# Altium footprint library Tank.PcbLib: 288 footprints (part 14 of 18)
Each footprint in its own frame and in the unit in brackets; x right, y up, seen from the top. Pads: shape width x height; smd on the part's side, far side on the other; paste and mask are expansions set on the pad; w line width, h text height; cw(c..) or ccw(c..) is an arc to the next point about the centre after c.
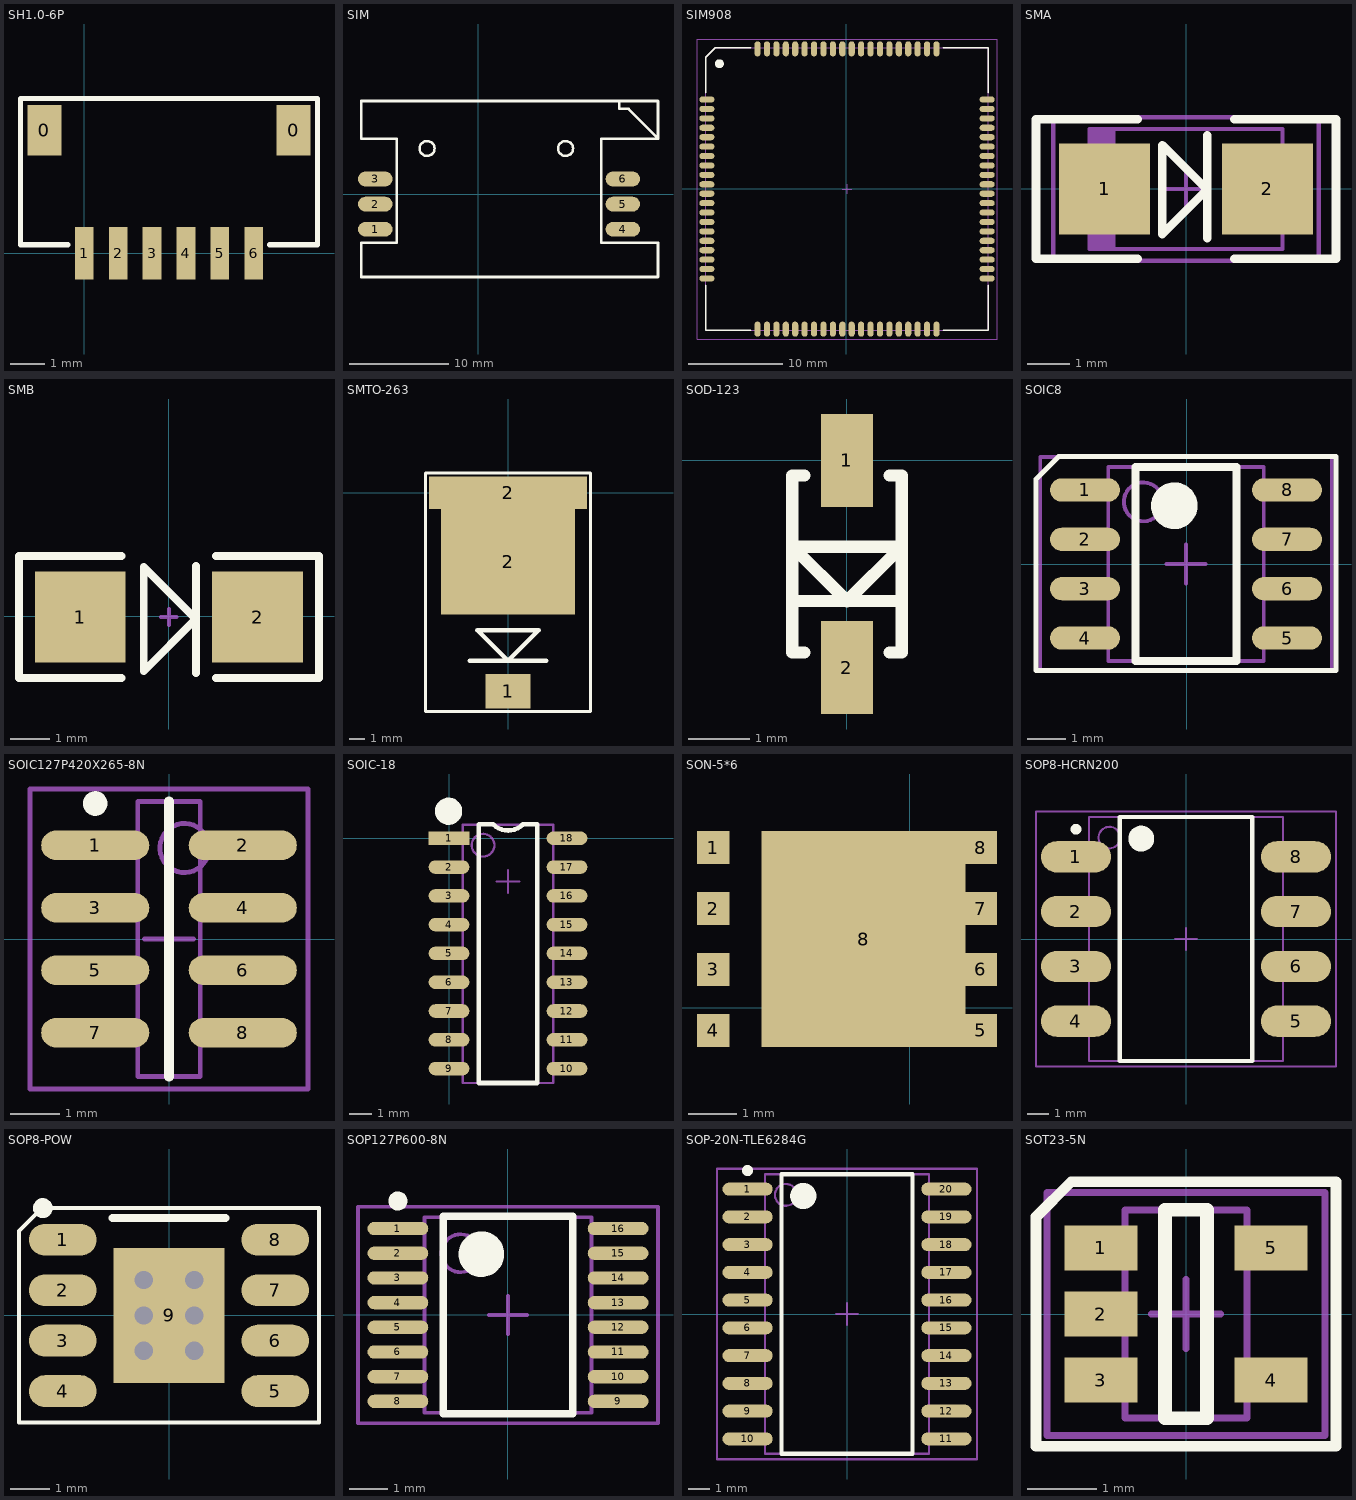
[diagram p13: the footprints below, top view; thin cyan lines are the x and y axes]

## SH1.0-6P [mm]
pads (8):
  rect 1x1.5 smd: 0(-1.175,3.63) 0(6.175,3.63)
  rect 0.55x1.55 smd: 1(0,0) 2(1,0) 3(2,0) 4(3,0) 5(4,0) 6(5,0)
Top Overlay:
  lines w0.152: -0.483,0.254 -1.88,0.254 -1.88,4.572 6.883,4.572 6.883,0.254 5.461,0.254

## SIM [mm]
pads (6):
  oval 3.5x1.5 smd: 1(-10.414,-3.556) 2(-10.414,-1.016) 3(-10.414,1.524) 4(14.605,-3.556) 5(14.605,-1.016) 6(14.605,1.524)
Top Overlay:
  circle w0.254: c8.824,4.608 r0.75
  circle w0.254: c-5.176,4.608 r0.75
  lines w0.254: -11.836,5.588 -11.836,9.388 ; -11.811,-4.953 -11.811,-8.382 18.161,-8.382 18.161,-4.942 12.446,-4.942 12.446,5.608 18.161,5.608 ; -11.811,-4.942 -8.255,-4.942 -8.255,5.608 -11.811,5.608 ; -11.811,9.408 12.873,9.408 18.161,9.408 18.161,5.608 ; 14.224,9.408 14.224,8.608 15.186,8.608 ; 15.186,8.582 18.161,5.608

## SIM908 [mm] "LCC, 80-Pins, Body 30.0x30.0mm (max), Pitch 1.00mm, IPC Medium Density"
height 2.54
pads (80):
  oval 0.65x1.6 smd: 1(-0.4,14.875) 2(-1.4,14.875) 3(-2.4,14.875) 4(-3.4,14.875) 5(-4.4,14.875) 6(-5.4,14.875) 7(-6.4,14.875) 8(-7.4,14.875) 9(-8.4,14.875) 10(-9.4,14.875) 31(-9.4,-14.875) 32(-8.4,-14.875) 33(-7.4,-14.875) 34(-6.4,-14.875) 35(-5.4,-14.875) 36(-4.4,-14.875) 37(-3.4,-14.875) 38(-2.4,-14.875) 39(-1.4,-14.875) 40(-0.4,-14.875) 41(0.6,-14.875) 42(1.6,-14.875) 43(2.6,-14.875) 44(3.6,-14.875) 45(4.6,-14.875) 46(5.6,-14.875) 47(6.6,-14.875) 48(7.6,-14.875) 49(8.6,-14.875) 50(9.6,-14.875) 71(9.6,14.875) 72(8.6,14.875) 73(7.6,14.875) 74(6.6,14.875) 75(5.6,14.875) 76(4.6,14.875) 77(3.6,14.875) 78(2.6,14.875) 79(1.6,14.875) 80(0.6,14.875)
  oval 1.6x0.65 smd: 11(-14.775,9.5) 12(-14.775,8.5) 13(-14.775,7.5) 14(-14.775,6.5) 15(-14.775,5.5) 16(-14.775,4.5) 17(-14.775,3.5) 18(-14.775,2.5) 19(-14.775,1.5) 20(-14.775,0.5) 21(-14.775,-0.5) 22(-14.775,-1.5) 23(-14.775,-2.5) 24(-14.775,-3.5) 25(-14.775,-4.5) 26(-14.775,-5.5) 27(-14.775,-6.5) 28(-14.775,-7.5) 29(-14.775,-8.5) 30(-14.775,-9.5) 51(14.975,-9.5) 52(14.975,-8.5) 53(14.975,-7.5) 54(14.975,-6.5) 55(14.975,-5.5) 56(14.975,-4.5) 57(14.975,-3.5) 58(14.975,-2.5) 59(14.975,-1.5) 60(14.975,-0.5) 61(14.975,0.5) 62(14.975,1.5) 63(14.975,2.5) 64(14.975,3.5) 65(14.975,4.5) 66(14.975,5.5) 67(14.975,6.5) 68(14.975,7.5) 69(14.975,8.5) 70(14.975,9.5)
Top Overlay:
  circle w0.45: c-13.45,13.3 r0.25
  lines w0.2: -14.9,-10.225 -14.9,-15 -10.125,-15 ; -14.9,10.225 -14.9,14 -13.9,15 -10.125,15 ; 10.325,-15 15.1,-15 15.1,-10.225 ; 10.325,15 15.1,15 15.1,10.225
Mechanical 13:
  lines w0.1: -14.9,-15 15.1,-15 15.1,15 -13.9,15 -14.9,14 -14.9,-15
Mechanical 15:
  lines w0.1: -0.4,0 0.6,0 ; 0.1,-0.5 0.1,0.5 ; -15.825,-15.925 16.025,-15.925 16.025,15.925 -15.825,15.925 -15.825,-15.925
3D body: height 2.54, standoff 0, extent -14.9,-15 15.1,15

## SMA [mm] "Molded Diode, 2-Leads, Body 4.3x2.7mm, IPC Medium Density"
height 2.95
pads (2):
  rect 2.15x2.15 smd: 1(-1.93,0) 2(1.93,0)
Top Overlay:
  lines w0.203: -1.143,-1.651 -3.556,-1.651 -3.556,1.651 -1.143,1.651 ; 0.508,-1.168 0.508,1.27 ; 1.143,-1.651 3.556,-1.651 3.556,1.651 1.143,1.651 ; -0.559,-1.067 -0.559,1.041 0.495,-0.013 -0.559,-1.067
Mechanical 13:
  rectangle: -2.285,-1.42 -1.67,1.42
  lines w0.1: -2.285,-1.42 2.285,-1.42 2.285,1.42 -2.285,1.42 -2.285,-1.42
Mechanical 15:
  lines w0.1: -0.5,0 0.5,0 ; 0,-0.5 0,0.5 ; -3.15,-1.7 3.15,-1.7 3.15,1.7 -3.15,1.7 -3.15,-1.7
3D body: height 2.95, standoff 0, extent -2.285,-1.42 2.285,1.42

## SMB [mm]
pads (2):
  rect 2.3x2.3 smd: 1(-2.25,-0.025) 2(2.25,-0.025)
Top Overlay:
  lines w0.2: -1.2,-1.575 -3.8,-1.575 -3.8,1.525 -1.2,1.525 ; 0.686,-1.448 0.686,1.27 ; 1.2,-1.575 3.81,-1.575 3.81,1.525 1.2,1.525 ; -0.635,-1.397 -0.635,1.245 0.686,-0.076 -0.635,-1.397
Mechanical 1:
  lines w0.1: -0.2,-0.025 0.2,-0.025 ; 0,-0.225 0,0.175

## SMTO-263 [mm]
pads (3):
  rect 3x2.3 smd: 1(0,-13.208)
  rect 8.89x7.05 smd: 2(0,-4.572)
  rect 10.5x2.16 smd: 2(0,0)
Top Overlay:
  lines w0.2: -5.486,-14.554 5.486,-14.554 5.486,1.321 -5.486,1.321 -5.486,-14.554
  lines w0.3: -2.54,-11.176 2.54,-11.176 ; -2.032,-9.144 2.032,-9.144 0,-11.176 -2.032,-9.144

## SOD-123 [mm]
pads (2):
  rect 0.85x1.524 smd: 1(0,0) 2(0,-3.4)
Top Overlay:
  lines w0.2: -0.9,-2.31 0.9,-2.31 ; -0.7,-3.15 -0.9,-3.15 -0.9,-0.25 -0.7,-0.25 ; 0.7,-3.15 0.9,-3.15 0.9,-0.25 0.7,-0.25
  lines w0.203: 0.839,-1.419 -0.89,-1.419 0,-2.31 0.89,-1.419

## SOIC8 [mm]
pads (8):
  oval 1.8x0.6 smd: 1(-2.625,1.905) 2(-2.625,0.635) 3(-2.625,-0.635) 4(-2.625,-1.905) 5(2.575,-1.905) 6(2.575,-0.635) 7(2.575,0.635) 8(2.575,1.905)
Top Overlay:
  circle w0.6: c-0.325,1.5 r0.3
  lines w0.127: -3.2,2.769 3.835,2.769 3.835,-2.743 -3.886,-2.743 -3.886,2.184 -3.302,2.769 -2.997,2.769
  lines w0.2: -1.325,-2.5 -1.325,2.5 1.275,2.5 1.275,-2.5 -1.325,-2.5
Mechanical 13:
  circle w0.1: c-1.125,1.6 r0.5
  lines w0.1: -2.025,-2.5 -2.025,2.5 1.975,2.5 1.975,-2.5 -2.025,-2.5
Mechanical 15:
  lines w0.1: -0.525,0 0.475,0 ; -0.025,-0.5 -0.025,0.5 ; -3.775,-2.75 -3.775,2.75 3.725,2.75 3.725,-2.75 -3.775,-2.75
3D body: height 1.76, standoff 0, extent -2.025,-2.5 1.975,2.5

## SOIC127P420X265-8N [mm] "SOIC, 8-Leads, Body 5.6x1.3mm (max), Pitch 1.27mm, IPC Medium Density"
height 2.65
pads (8):
  oval 2.2x0.6 smd: 1(-1.5,1.905) 2(1.5,1.905) 3(-1.5,0.635) 4(1.5,0.635) 5(-1.5,-0.635) 6(1.5,-0.635) 7(-1.5,-1.905) 8(1.5,-1.905)
Top Overlay:
  circle w0.25: c-1.5,2.755 r0.125
  lines w0.2: 0,-2.8 0,2.8 0,-2.8
Mechanical 13:
  circle w0.1: c0.315,1.85 r0.5
  lines w0.1: -0.635,-2.8 0.635,-2.8 0.635,2.8 -0.635,2.8 -0.635,-2.8
Mechanical 15:
  lines w0.1: -0.5,0 0.5,0 ; 0,-0.5 0,0.5 ; -2.825,-3.05 2.825,-3.05 2.825,3.05 -2.825,3.05 -2.825,-3.05
3D body: height 2.65, standoff 0.1, extent -0.635,-2.8 0.635,2.8

## SOIC-18 [mm]
pads (18):
  rect 1.8x0.6 smd: 1(0,0)
  oval 1.8x0.6 smd: 2(0,-1.27) 3(0,-2.54) 4(0,-3.81) 5(0,-5.08) 6(0,-6.35) 7(0,-7.62) 8(0,-8.89) 9(0,-10.16) 10(5.2,-10.16) 11(5.2,-8.89) 12(5.2,-7.62) 13(5.2,-6.35) 14(5.2,-5.08) 15(5.2,-3.81) 16(5.2,-2.54) 17(5.2,-1.27) 18(5.2,0)
Top Overlay:
  circle w0.6: c-0.021,1.194 r0.3
  lines w0.2: 1.3,0.595 1.3,-10.795 3.9,-10.795 3.9,0.595 ; 1.321,0.61 1.956,0.61 ; 3.251,0.61 3.886,0.61
  lines w0.203: 1.956,0.61 ccw(c2.603,1.257) 3.251,0.61
Mechanical 13:
  circle w0.1: c1.5,-0.305 r0.5
  lines w0.1: 0.6,-10.795 4.6,-10.795 4.6,0.595 0.6,0.595 0.6,-10.795
Mechanical 15:
  lines w0.1: 2.1,-1.905 3.1,-1.905 ; 2.6,-2.405 2.6,-1.405
3D body: height 1.76, standoff 0, extent 0.6,-10.795 4.6,0.595

## SON-5*6 [mm]
pads (9):
  rect 0.68x0.68 smd: 1(-4.097,3.34) 2(-4.097,2.07) 3(-4.097,0.8) 4(-4.097,-0.47) 5(1.473,-0.47) 6(1.473,0.8) 7(1.473,2.07) 8(1.473,3.34)
  rect 4.248x4.496 smd: 8(-0.965,1.435)

## SOP8-HCRN200 [mm]
height 2.65
pads (8):
  oval 3.25x1.45 smd: 1(-5.1,3.81) 2(-5.1,1.27) 3(-5.1,-1.27) 4(-5.1,-3.81) 5(5.1,-3.81) 6(5.1,-1.27) 7(5.1,1.27) 8(5.1,3.81)
Top Overlay:
  circle w0.6: c-2.075,4.65 r0.3
  circle w0.25: c-5.1,5.085 r0.125
  lines w0.2: -3.075,-5.65 3.075,-5.65 3.075,5.65 -3.075,5.65 -3.075,-5.65
Mechanical 13:
  circle w0.1: c-3.55,4.7 r0.5
  lines w0.1: -4.5,-5.65 4.5,-5.65 4.5,5.65 -4.5,5.65 -4.5,-5.65
Mechanical 15:
  lines w0.1: -0.5,0 0.5,0 ; 0,-0.5 0,0.5 ; -6.95,-5.9 6.95,-5.9 6.95,5.9 -6.95,5.9 -6.95,-5.9
3D body: height 2.65, standoff 0.1, extent -4.5,-5.65 4.5,5.65

## SOP8-POW [mm]
height 2.65
pads (9):
  oval 1.7x0.8 smd: 1(-2.675,1.905) 2(-2.675,0.635) 3(-2.675,-0.635) 4(-2.675,-1.905) 5(2.675,-1.905) 6(2.675,-0.635) 7(2.675,0.635) 8(2.675,1.905)
  rect 2.8x3.4 smd: 9(0,0)
via -0.635,0.889 diameter 0.559 hole 0.457
via 0.635,0.889 diameter 0.559 hole 0.457
via -0.635,0 diameter 0.559 hole 0.457
via 0.635,0 diameter 0.559 hole 0.457
via -0.635,-0.889 diameter 0.559 hole 0.457
via 0.635,-0.889 diameter 0.559 hole 0.457
Top Overlay:
  circle w0.25: c-3.175,2.7 r0.125
  lines w0.1: -3.775,-2.7 -3.775,2.125 -3.2,2.7 3.775,2.7 3.775,-2.7 -3.775,-2.7
  lines w0.2: -1.425,2.45 1.425,2.45
Mechanical 15:
  lines w0.1: -0.5,0 0.5,0 ; 0,-0.5 0,0.5

## SOP127P600-8N [mm]
height 2.65
pads (16):
  oval 1.6x0.35 smd: 1(-2.9,2.275) 2(-2.9,1.625) 3(-2.9,0.975) 4(-2.9,0.325) 5(-2.9,-0.325) 6(-2.9,-0.975) 7(-2.9,-1.625) 8(-2.9,-2.275) 9(2.9,-2.275) 10(2.9,-1.625) 11(2.9,-0.975) 12(2.9,-0.325) 13(2.9,0.325) 14(2.9,0.975) 15(2.9,1.625) 16(2.9,2.275)
Top Overlay:
  circle w0.6: c-0.7,1.6 r0.3
  circle w0.25: c-2.9,3 r0.125
  lines w0.2: -1.7,-2.6 1.7,-2.6 1.7,2.6 -1.7,2.6 -1.7,-2.6
Mechanical 13:
  circle w0.1: c-1.25,1.625 r0.5
  lines w0.1: -2.2,-2.575 2.2,-2.575 2.2,2.575 -2.2,2.575 -2.2,-2.575
Mechanical 15:
  lines w0.1: -0.5,0 0.5,0 ; 0,-0.5 0,0.5 ; -3.95,-2.85 3.95,-2.85 3.95,2.85 -3.95,2.85 -3.95,-2.85
3D body: height 2.65, standoff 0.19, extent -2.2,-2.575 2.2,2.575

## SOP-20N-TLE6284G [mm] "SOP, 20-Leads, Body 12.8x7.5mm (max), Pitch 1.27mm, IPC Medium Density"
height 2.65
pads (20):
  oval 2.3x0.6 smd: 1(-4.55,5.715) 2(-4.55,4.445) 3(-4.55,3.175) 4(-4.55,1.905) 5(-4.55,0.635) 6(-4.55,-0.635) 7(-4.55,-1.905) 8(-4.55,-3.175) 9(-4.55,-4.445) 10(-4.55,-5.715) 11(4.55,-5.715) 12(4.55,-4.445) 13(4.55,-3.175) 14(4.55,-1.905) 15(4.55,-0.635) 16(4.55,0.635) 17(4.55,1.905) 18(4.55,3.175) 19(4.55,4.445) 20(4.55,5.715)
Top Overlay:
  circle w0.25: c-4.55,6.565 r0.125
  circle w0.6: c-2,5.4 r0.3
  lines w0.2: -3,-6.4 -3,6.4 3,6.4 3,-6.4 -3,-6.4
Mechanical 13:
  circle w0.1: c-2.8,5.45 r0.5
  lines w0.1: -3.75,-6.4 -3.75,6.4 3.75,6.4 3.75,-6.4 -3.75,-6.4
Mechanical 15:
  lines w0.1: -0.5,0 0.5,0 ; 0,-0.5 0,0.5 ; -5.95,-6.65 -5.95,6.65 5.95,6.65 5.95,-6.65 -5.95,-6.65
3D body: height 2.65, standoff 0.2, extent -3.75,-6.4 3.75,6.4

## SOT23-5N [mm]
height 1.1
pads (5):
  rect 1.05x0.65 smd: 1(-1.225,0.95) 2(-1.225,0) 3(-1.225,-0.95) 4(1.225,-0.95) 5(1.225,0.95)
Top Overlay:
  lines w0.152: -2.159,-1.905 -2.159,1.397 -1.651,1.905 2.159,1.905 2.159,-1.905 -2.159,-1.905
  lines w0.2: -0.3,-1.5 0.3,-1.5 0.3,1.5 -0.3,1.5 -0.3,-1.5
Mechanical 13:
  lines w0.1: -0.875,-1.5 -0.875,1.5 0.875,1.5 0.875,-1.5 -0.875,-1.5
Mechanical 15:
  lines w0.1: -0.5,0 0.5,0 ; 0,-0.5 0,0.5 ; -2,-1.75 -2,1.75 2,1.75 2,-1.75 -2,-1.75
3D body: height 1.1, standoff 0.05, extent -0.875,-1.5 0.875,1.5